# Altium footprint library PCB - LEADLESS - MLPAK - VISHAY POWERPAK MLP55-27.PcbLib: 1 footprints
Each footprint in its own frame and in the unit in brackets; x right, y up, seen from the top. Pads: shape width x height; smd on the part's side, far side on the other; paste and mask are expansions set on the pad; w line width, h text height; cw(c..) or ccw(c..) is an arc to the next point about the centre after c.
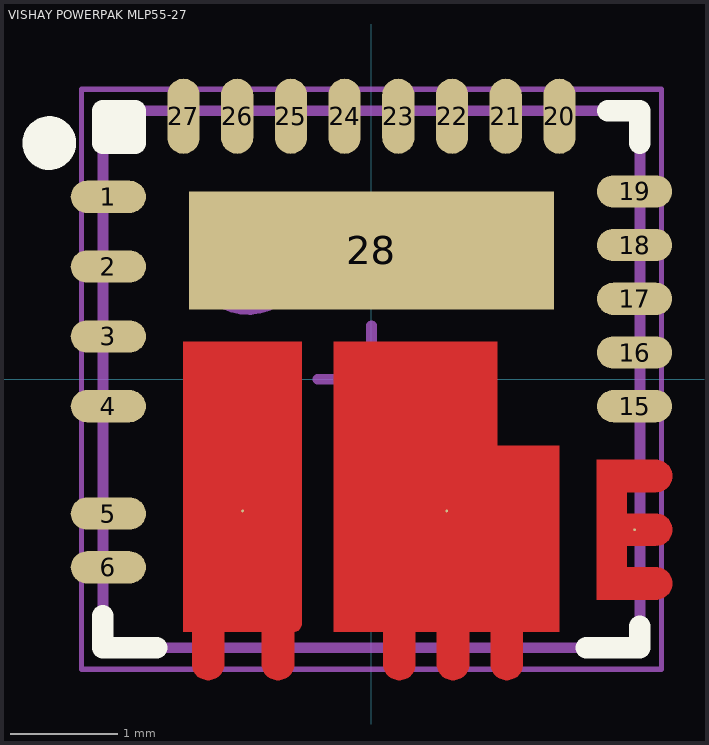
[diagram p0: the footprint, top view; thin cyan lines are the x and y axes]

## VISHAY POWERPAK MLP55-27 [mm] "5x5mm PowerPAK"
height 0.8
pads (23):
  oval 0.7x0.3 smd: 1(-2.45,1.7) 2(-2.45,1.05) 3(-2.45,0.4) 4(-2.45,-0.25) 5(-2.45,-1.25) 6(-2.45,-1.75) 15(2.45,-0.25) 16(2.45,0.25) 17(2.45,0.75) 18(2.45,1.25) 19(2.45,1.75)
  round 0.025 smd: 7(-1.2,-1.225) 11(0.7,-1.225) 20(2.45,-1.4)
  oval 0.3x0.7 smd: 20(1.75,2.45) 21(1.25,2.45) 22(0.75,2.45) 23(0.25,2.45) 24(-0.25,2.45) 25(-0.75,2.45) 26(-1.25,2.45) 27(-1.75,2.45)
  rect 3.4x1.1 smd: 28(0,1.2)
Top Layer:
  region: 2.1,-2.05 2.1,-0.75 2.65,-0.75 2.665,-0.75 2.694,-0.756 2.721,-0.767 2.746,-0.783 2.767,-0.804 2.783,-0.829 2.794,-0.856 2.8,-0.885 2.8,-0.9 2.8,-0.915 2.794,-0.944 2.783,-0.971 2.767,-0.996 2.746,-1.017 2.721,-1.033 2.694,-1.044 2.665,-1.05 2.65,-1.05 2.375,-1.05 2.375,-1.25 2.65,-1.25 2.665,-1.25 2.694,-1.256 2.721,-1.267 2.746,-1.283 2.767,-1.304 2.783,-1.329 2.794,-1.356 2.8,-1.385 2.8,-1.4 2.8,-1.415 2.794,-1.444 2.783,-1.471 2.767,-1.496 2.746,-1.517 2.721,-1.533 2.694,-1.544 2.665,-1.55 2.65,-1.55 2.375,-1.55 2.375,-1.75 2.65,-1.75 2.665,-1.75 2.694,-1.756 2.721,-1.767 2.746,-1.783 2.767,-1.804 2.783,-1.829 2.794,-1.856 2.8,-1.885 2.8,-1.9 2.8,-1.915 2.794,-1.944 2.783,-1.971 2.767,-1.996 2.746,-2.017 2.721,-2.033 2.694,-2.044 2.665,-2.05 2.65,-2.05
  region: -1.67,-2.65 -1.67,-2.665 -1.664,-2.694 -1.653,-2.721 -1.637,-2.746 -1.616,-2.767 -1.591,-2.783 -1.564,-2.794 -1.535,-2.8 -1.52,-2.8 -1.505,-2.8 -1.476,-2.794 -1.449,-2.783 -1.424,-2.767 -1.403,-2.746 -1.387,-2.721 -1.376,-2.694 -1.37,-2.665 -1.37,-2.65 -1.37,-2.355 -1.37,-2.354 -1.371,-2.352 -1.372,-2.351 -1.374,-2.35 -1.375,-2.35 -1.02,-2.35 -1.02,-2.65 -1.02,-2.665 -1.014,-2.694 -1.003,-2.721 -0.987,-2.746 -0.966,-2.767 -0.941,-2.783 -0.914,-2.794 -0.885,-2.8 -0.87,-2.8 -0.855,-2.8 -0.826,-2.794 -0.799,-2.783 -0.774,-2.767 -0.753,-2.746 -0.737,-2.721 -0.726,-2.694 -0.72,-2.665 -0.72,-2.65 -0.72,-2.355 -0.72,-2.354 -0.721,-2.352 -0.722,-2.351 -0.724,-2.35 -0.725,-2.35 -0.71,-2.35 -0.683,-2.339 -0.661,-2.317 -0.65,-2.29 -0.65,-2.275 -0.65,0.35 -1.75,0.35 -1.75,-2.35 -1.67,-2.35
  region: 0.11,-2.65 0.11,-2.665 0.116,-2.694 0.127,-2.721 0.143,-2.746 0.164,-2.767 0.189,-2.783 0.216,-2.794 0.245,-2.8 0.26,-2.8 0.275,-2.8 0.304,-2.794 0.331,-2.783 0.356,-2.767 0.377,-2.746 0.393,-2.721 0.404,-2.694 0.41,-2.665 0.41,-2.65 0.41,-2.36 0.41,-2.358 0.408,-2.354 0.406,-2.352 0.402,-2.35 0.4,-2.35 0.61,-2.35 0.61,-2.65 0.61,-2.665 0.616,-2.694 0.627,-2.721 0.643,-2.746 0.664,-2.767 0.689,-2.783 0.716,-2.794 0.745,-2.8 0.76,-2.8 0.775,-2.8 0.804,-2.794 0.831,-2.783 0.856,-2.767 0.877,-2.746 0.893,-2.721 0.904,-2.694 0.91,-2.665 0.91,-2.65 0.91,-2.36 0.91,-2.358 0.908,-2.354 0.906,-2.352 0.902,-2.35 0.9,-2.35 1.11,-2.35 1.11,-2.65 1.11,-2.665 1.116,-2.694 1.127,-2.721 1.143,-2.746 1.164,-2.767 1.189,-2.783 1.216,-2.794 1.245,-2.8 1.26,-2.8 1.275,-2.8 1.304,-2.794 1.331,-2.783 1.356,-2.767 1.377,-2.746 1.393,-2.721 1.404,-2.694 1.41,-2.665 1.41,-2.65 1.41,-2.35 1.75,-2.35 1.75,-0.62 1.17,-0.62 1.17,0.35 -0.35,0.35 -0.35,-2.35 0.11,-2.35
Top Overlay:
  circle w0.25: c-3,2.2 r0.125
  rectangle: -2.5,2.2 -2.2,2.5
  lines w0.2: -2.5,-2.2 -2.5,-2.5 -2,-2.5 ; 2,-2.5 2.5,-2.5 2.5,-2.3 ; 2.2,2.5 2.5,2.5 2.5,2.2 ; -2.5,2.2 -2.2,2.2 -2.2,2.5 -2.5,2.5 -2.5,2.2
Mechanical 13:
  circle w0.1: c-1.15,1.15 r0.5
  lines w0.1: -2.5,-2.5 -2.5,2.5 2.5,2.5 2.5,-2.5 -2.5,-2.5
Mechanical 15:
  lines w0.05: -2.7,-2.7 2.7,-2.7 2.7,2.7 -2.7,2.7 -2.7,-2.7
  lines w0.1: -0.5,0 0.5,0 ; 0,-0.5 0,0.5
3D body "Vishay PowerPAK MLP27-55 BWL.step": height 0.8, standoff 0, extent -2.51,-2.51 2.51,2.51